# Altium footprint library QUTMS_MotorDriverLibrary.PcbLib: 1 footprints
Each footprint in its own frame and in the unit in brackets; x right, y up, seen from the top. Pads: shape width x height; smd on the part's side, far side on the other; paste and mask are expansions set on the pad; w line width, h text height; cw(c..) or ccw(c..) is an arc to the next point about the centre after c.
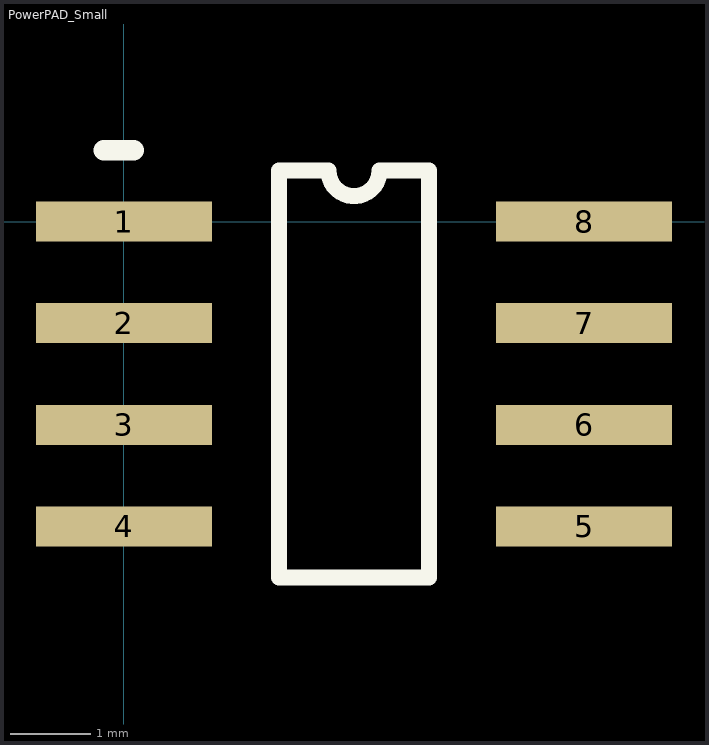
[diagram p0: the footprint, top view; thin cyan lines are the x and y axes]

## PowerPAD_Small [mm]
pads (8):
  rect 2.2x0.5 smd: 1(0,0) 2(0,-1.27) 3(0,-2.54) 4(0,-3.81) 5(5.75,-3.81) 6(5.75,-2.54) 7(5.75,-1.27) 8(5.75,0)
Top Overlay:
  lines w0.2: 1.935,-4.445 1.935,0.635 2.558,0.635 ccw(c2.875,0.635) 3.193,0.635 3.815,0.635 3.815,-4.445 1.935,-4.445
  lines w0.254: -0.254,0.889 0.127,0.889
3D body: height 1.65, standoff 0, extent 0.762,-4.445 4.953,0.635